# Altium schematic symbol library Inductor.SchLib: 43 symbols
Pins are listed as number, name and electrical type; pins without a type are passive.

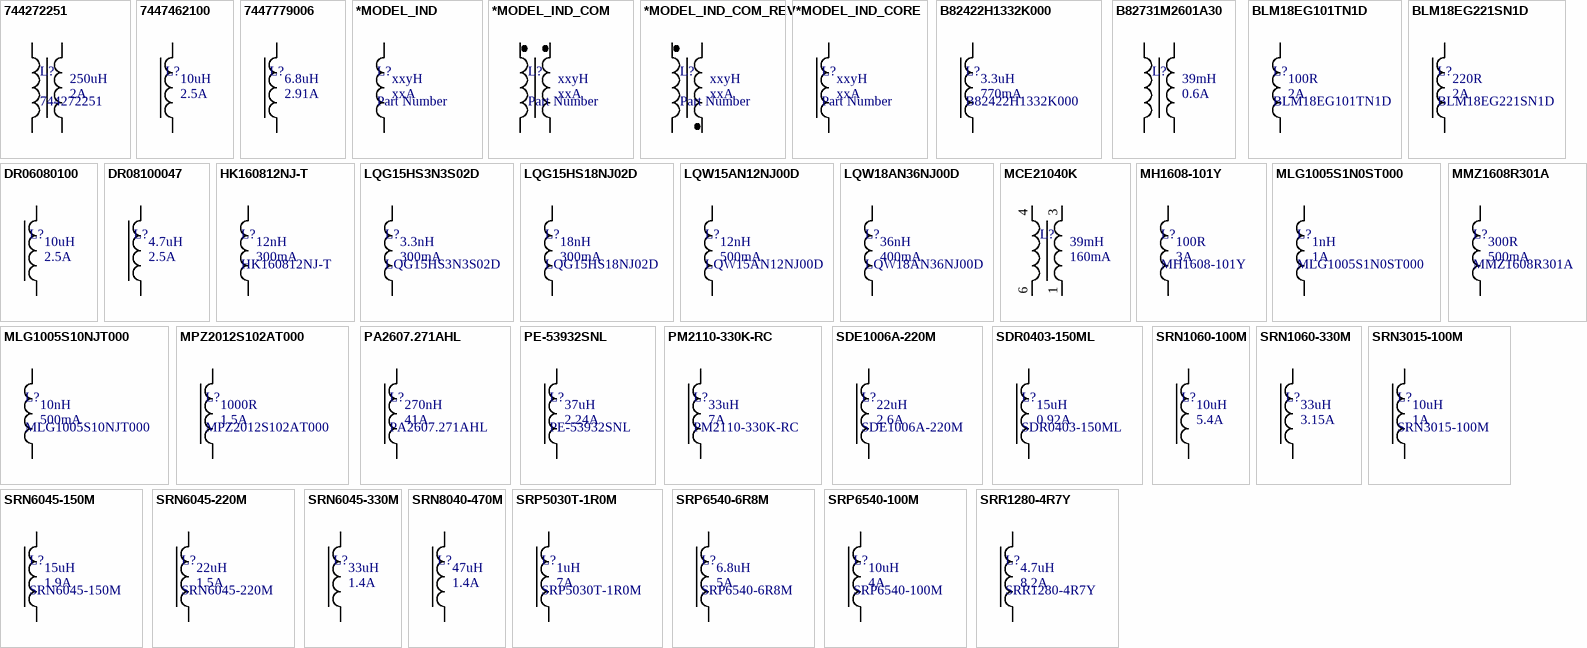
[diagram p0: symbols 744272251 to SRR1280-4R7Y]

## 744272251
designator L?  value 250uH  Current: 2A
CHOKE COM MODE 2 X 250UH 2.0A; Manufacturer: Wurth Electronics Inc; Mount Type: SMD; Supplier 1: Digi-Key; Supplier 2: Farnell; Supplier 3: Mouser; Supplier 4: Newark; Supplier Part Number 1: 732-1491-1-ND; Supplier Part Number 2: 1848207; Supplier Part Number 3: 710-744272251; Supplier Part Number 4: 13T9739
footprint WE-SL5 SERIES
pins: 1, 2, 3, 4

## 7447462100
designator L?  value 10uH  Current: 2.5A  (hidden comment: 7447462100)
FIXED IND 10UH 2.5A 80 MOHM TH; Manufacturer: Wurth Electronics Inc; Mount Type: PTH; Supplier 1: Farnell; Supplier 2: Mouser; Supplier 3: Digi-Key; Supplier Part Number 1: 1848266; Supplier Part Number 2: 710-7447462100; Supplier Part Number 3: 732-2569-ND
footprint IND_PTH_5mm
pins: 1, 2

## 7447779006
designator L?  value 6.8uH  Current: 2.91A  (hidden comment: 7447779006)
FIXED IND 6.8UH 2.91A 35 MOHM; Manufacturer: Wurth Electronics Inc; Mount Type: SMD; Supplier 1: Digi-Key; Supplier Part Number 1: 732-1190-1-ND
footprint 7447779006 (SRN8040 Series Inductor Package)
pins: 1, 2

## *MODEL_IND
designator L?, comment Part Number  value xxyH  Current: xxA
Description; Manufacturer: *; Mount Type: *
pins: 1, 2

## *MODEL_IND_COM
designator L?, comment Part Number  value xxyH  Current: xxA
Description; Manufacturer: *; Mount Type: *
pins: 1, 2, 3, 4

## *MODEL_IND_COM_REV
designator L?, comment Part Number  value xxyH  Current: xxA
Description; Manufacturer: *; Mount Type: *
pins: 1, 2, 3, 4

## *MODEL_IND_CORE
designator L?, comment Part Number  value xxyH  Current: xxA
Description; Manufacturer: *; Mount Type: *
pins: 1, 2

## B82422H1332K000
designator L?  value 3.3uH  Current: 770mA
FIXED IND 3.3UH 770MA 180 MOHM; Manufacturer: EPCOS (TDK); Mount Type: SMD; Supplier 1: Farnell; Supplier Part Number 1: 1299972RL; Supplier 2: Avnet; Supplier Part Number 2: B82422H1332K; Supplier 3: Digi-Key; Supplier Part Number 3: 495-2646-1-ND; Supplier 4: Newark; Supplier Part Number 4: 25M8337
footprint L1210
pins: 1, 2

## B82731M2601A30
designator L?  value 39mH  Current: 0.6A  (hidden comment: B82731M2601A30)
D CORE DBL CHOKE 39MH 0.6A VERT; Manufacturer: EPCOS (TDK); Mount Type: PTH; Supplier 1: Mouser; Supplier 2: Newark; Supplier 3: Digi-Key; Supplier Part Number 1: 871-B82731M2601A30; Supplier Part Number 2: 06J1344; Supplier Part Number 3: 495-2766-ND
footprint EE-20 CHOKE (E-25-10T-V-Long)
pins: 1, 3, 4, 6

## BLM18EG101TN1D
designator L?  value 100R  Current: 2A
FERRITE CHIP 100 OHM 2A 0603; Manufacturer: Murata Electronics North America; Mount Type: SMD; Supplier 1: Digi-Key; Supplier Part Number 1: 490-5978-1-ND; Supplier 2: Farnell; Supplier Part Number 2: 1515714; Supplier 3: Mouser; Supplier Part Number 3: 81-BLM18EG101TN1D
footprint L0603
pins: 1, 2

## BLM18EG221SN1D
designator L?  value 220R  Current: 2A
FERRITE BEAD 220 OHM 0603 1LN; Manufacturer: Murata Electronics North America; Mount Type: SMD; Supplier 1: Avnet; Supplier Part Number 1: BLM18EG221SN1D; Supplier 2: Digikey; Supplier Part Number 2: 490-3992-1-ND; Supplier 3: Arrow; Supplier Part Number 3: BLM18EG221SN1D**MULT1; Supplier 4: Farnell; Supplier Part Number 4: 1515716
footprint L0603
pins: 1, 2

## DR06080100
designator L?  value 10uH  Current: 2.5A  (hidden comment: DR06080100)
FIXED IND 10UH 2.5A; Manufacturer: MGS; Mount Type: PTH
footprint IND_PTH_5mm
pins: 1, 2

## DR08100047
designator L?  value 4.7uH  Current: 2.5A  (hidden comment: DR08100047)
FIXED IND 4.7UH 2.5A; Manufacturer: MGS; Mount Type: PTH
footprint IND_PTH_5mm
pins: 1, 2

## HK160812NJ-T
designator L?  value 12nH  Current: 300mA
FIXED IND 12NH 300MA 280 MOHM; Manufacturer: Taiyo Yuden; Mount Type: SMD; Supplier 1: Mouser; Supplier 2: Newark; Supplier 3: Digi-Key; Supplier 4: Farnell; Supplier Part Number 1: 963-HK160812NJ-T; Supplier Part Number 2: 74M2718; Supplier Part Number 3: 587-1546-1-ND; Supplier Part Number 4: 1515374
footprint L0603
pins: 1, 2

## LQG15HS3N3S02D
designator L?  value 3.3nH  Current: 300mA
FIXED IND 3.3NH 300MA 170 MOHM; Manufacturer: Murata Electronics North America; Mount Type: SMD; Supplier 1: Mouser; Supplier Part Number 1: 81-LQG15HS3N3S02D; Supplier 2: Farnell; Supplier Part Number 2: 1669635; Supplier 3: Digi-Key; Supplier Part Number 3: 490-2616-1-ND
footprint L0402
pins: 1, 2

## LQG15HS18NJ02D
designator L?  value 18nH  Current: 300mA
FIXED IND 18NH 300MA 360 MOHM; Manufacturer: Murata Electronics North America; Mount Type: SMD; Supplier 1: Mouser; Supplier Part Number 1: 81-LQG15HS18NJ02D; Supplier 2: Digi-Key; Supplier Part Number 2: 490-2626-1-ND; Supplier 3: Farnell; Supplier Part Number 3: 1404293
footprint L0402
pins: 1, 2

## LQW15AN12NJ00D
designator L?  value 12nH  Current: 500mA
FIXED IND 12NH 500MA 140 MOHM; Manufacturer: Murata Electronics North America; Mount Type: SMD; Supplier 1: Mouser; Supplier Part Number 1: 81-LQW15AN12NJ00D; Supplier 2: Digi-Key; Supplier Part Number 2: 490-1147-1-ND
footprint L0402
pins: 1, 2

## LQW18AN36NJ00D
designator L?  value 36nH  Current: 400mA
FIXED IND 36NH 400MA 260 MOHM; Manufacturer: Murata Electronics North America; Mount Type: SMD; Supplier 1: Mouser; Supplier 2: Digi-Key; Supplier Part Number 1: 81-LQW18AN36NJ00D; Supplier Part Number 2: 490-6887-1-ND
footprint L0603
pins: 1, 2

## MCE21040K
designator L?  value 39mH  Current: 160mA  (hidden comment: MCE21040K)
D CORE DBL CHOKE 39MH VERT; Manufacturer: MGS; Mount Type: PTH
footprint EE-20 CHOKE (E-25-10T-V-Long)
pins: 1, 3, 4, 6

## MH1608-101Y
designator L?  value 100R  Current: 3A
FERRITE BEAD 100 OHM 0603 1LN; Manufacturer: Bourns Inc.; Mount Type: SMD; Supplier 1: Digikey; Supplier Part Number 1: MH1608-101YCT-ND; Supplier 2: Mouser; Supplier Part Number 2: 652-MH1608-101Y; Supplier 3: Arrow; Supplier Part Number 3: MH1608-101Y; Supplier 4: Newark; Supplier Part Number 4: 14P6073
footprint L0603
pins: 1, 2

## MLG1005S1N0ST000
designator L?  value 1nH  Current: 1A
FIXED IND 1NH 1A 100 MOHM SMD; Manufacturer: TDK Corporation; Mount Type: SMD; Supplier 1: Mouser; Supplier Part Number 1: 810-MLG1005S1N0ST000; Supplier 2: Digi-Key; Supplier Part Number 2: 445-3035-1-ND
footprint L0402
pins: 1, 2

## MLG1005S10NJT000
designator L?  value 10nH  Current: 500mA
FIXED IND 10NH 500MA 350 MOHM; Manufacturer: TDK Corporation; Mount Type: SMD; Supplier 1: Mouser; Supplier Part Number 1: 810-MLG1005S10NJT000; Supplier 2: Newark; Supplier Part Number 2: 89R2819; Supplier 3: Digi-Key; Supplier Part Number 3: 445-3059-1-ND
footprint L0402
pins: 1, 2

## MMZ1608R301A
designator L?  value 300R  Current: 500mA
FERRITE CHIP 300 OHM 500MA 0603; Manufacturer: TDK Corporation; Mount Type: SMD; Supplier 1: Digi-Key; Supplier 2: Newark; Supplier 3: Mouser; Supplier 4: Farnell; Supplier Part Number 1: 445-2171-1-ND; Supplier Part Number 2: 89R3089; Supplier Part Number 3: 810-MMZ1608R301A; Supplier Part Number 4: 1669698
footprint L0603
pins: 1, 2

## MPZ2012S102AT000
designator L?  value 1000R  Current: 1.5A
FERRITE BEAD 1 KOHM 0805 1LN; Manufacturer: TDK Corporation; Mount Type: SMD; Supplier 1: Digi-Key; Supplier Part Number 1: 445-5223-1-ND; Supplier 2: Newark; Supplier Part Number 2: 88T9831; Supplier 3: Farnell; Supplier Part Number 3: 2354350; Supplier 4: Avnet; Supplier Part Number 4: MPZ2012S102AT000
footprint L0805
pins: 1, 2

## PA2607.271AHL
designator L?  value 270nH  Current: 41A
FIXED IND 270NH 41A 0.29 MOHM; Manufacturer: Pulse Electronics Power; Mount Type: SMD
footprint PA2607NL SERIES (PA2607NL Series Inductor Package)
pins: 1, 2

## PE-53932SNL
designator L?  value 37uH  Current: 2.24A
FIXED IND 37UH 2.24A 100 MOHM; Manufacturer: Pulse Electronics Corporation; Mount Type: SMD; Supplier 1: Farnell; Supplier 2: Mouser; Supplier 3: Digi-Key; Supplier 4: Newark; Supplier Part Number 1: 2215910; Supplier Part Number 2: 673-PE-53932SNL; Supplier Part Number 3: 553-1415-ND; Supplier Part Number 4: 46W2106
footprint LCI-44 SERIES
pins: 1, 2

## PM2110-330K-RC
designator L?  value 33uH  Current: 7A
FIXED IND 33UH 7A 19 MOHM SMD; Manufacturer: Bourns Inc; Mount Type: SMD; Supplier 1: Mouser; Supplier 2: Digi-Key; Supplier 3: Newark; Supplier Part Number 1: 542-PM2110-330K-RC; Supplier Part Number 2: M8762-ND; Supplier Part Number 3: 63K3189
footprint PM2110 Series (PM2110 Series Inductor Package)
pins: 1, 2

## SDE1006A-220M
designator L?  value 22uH  Current: 2.6A
FIXED IND 22UH 2.6A 100 MOHM SMD; Manufacturer: Bourns Inc.; Mount Type: SMD; Supplier 1: Arrow; Supplier Part Number 1: BT7cLCjR4AcSCv8OfbaCtKhpImzOIY6yG73DK1LtnU4; Supplier 2: Digi-Key; Supplier Part Number 2: SDE1006A-220MCT-ND; Supplier 3: Farnell; Supplier Part Number 3: 2373997
footprint SDE1006A Series (SMD Power Inductors)
pins: 1, 2

## SDR0403-150ML
designator L?  value 15uH  Current: 0.92A
INDUCTOR POWER 15UH 0.92A 0403; Manufacturer: Bourns Inc.; Mount Type: SMD; Supplier 1: Allied; Supplier 2: Newark; Supplier 3: Mouser; Supplier 4: Digi-Key; Supplier 5: Farnell; Supplier Part Number 1: 70277110; Supplier Part Number 2: 04P1892; Supplier Part Number 3: 652-SDR0403-150ML; Supplier Part Number 4: SDR0403-150MLCT-ND; Supplier Part Number 5: 1827983
footprint SDR0403 Series
pins: 1, 2

## SRN1060-100M
designator L?  value 10uH  Current: 5.4A  (hidden comment: SRN1060-100M)
FIXED IND 10UH 5.4A 29 MOHM SMD; Manufacturer: Bourns Inc.; Mount Type: SMD; Supplier 1: Farnell; Supplier 2: Newark; Supplier 3: Digi-Key; Supplier Part Number 1: 2329186; Supplier Part Number 2: 54W0028; Supplier Part Number 3: SRN1060-100MCT-ND
footprint SRN1060 Series
pins: 1, 2

## SRN1060-330M
designator L?  value 33uH  Current: 3.15A  (hidden comment: SRN1060-330M)
FIXED IND 33UH 3.15A 72 MOHM SMD; Manufacturer: Bourns Inc.; Mount Type: SMD; Supplier 1: Farnell; Supplier 2: Digi-Key; Supplier 3: Newark; Supplier Part Number 1: 2329194RL; Supplier Part Number 2: SRN1060-330MCT-ND; Supplier Part Number 3: 06X7480
footprint SRN1060 Series
pins: 1, 2

## SRN3015-100M
designator L?  value 10uH  Current: 1A
INDUCTOR POWER SHIELD 10UH SMD; Manufacturer: Bourns Inc.; Mount Type: SMD; Supplier 1: Mouser; Supplier 2: Allied; Supplier 3: Digi-Key; Supplier 4: Farnell; Supplier 5: Newark; Supplier Part Number 1: 652-SRN3015-100M; Supplier Part Number 2: 70231646; Supplier Part Number 3: SRN3015-100MCT-ND; Supplier Part Number 4: 2061634RL; Supplier Part Number 5: 61T9872
footprint SRN3015 Series
pins: 1, 2

## SRN6045-150M
designator L?  value 15uH  Current: 1.9A
FIXED IND 15UH 1.9A 95.8 MOHM; Manufacturer: Bourns Inc.; Mount Type: SMD; Supplier 1: Newark; Supplier Part Number 1: 64T2382; Supplier 2: Mouser; Supplier Part Number 2: 652-SRN6045-150M; Supplier 3: Digi-Key; Supplier Part Number 3: SRN6045-150MCT-ND; Supplier 4: Farnell; Supplier Part Number 4: 2061653
footprint SRN6045 Series
pins: 1, 2

## SRN6045-220M
designator L?  value 22uH  Current: 1.5A
FIXED IND 22UH 1.5A 142 MOHM SMD; Manufacturer: Bourns Inc.; Mount Type: SMD; Supplier 1: Newark; Supplier Part Number 1: 61T9890; Supplier 2: Allied; Supplier Part Number 2: 70231663; Supplier 3: Digi-Key; Supplier Part Number 3: SRN6045-220MCT-ND; Supplier 4: Farnell; Supplier Part Number 4: 2061654
footprint SRN6045 Series
pins: 1, 2

## SRN6045-330M
designator L?  value 33uH  Current: 1.4A  (hidden comment: SRN6045-330M)
FIXED IND 33UH 1.4A 188 MOHM SMD; Manufacturer: Bourns Inc.; Mount Type: SMD; Supplier 1: Digi-Key; Supplier Part Number 1: SRN6045-330MCT-ND
footprint SRN6045 Series
pins: 1, 2

## SRN8040-470M
designator L?  value 47uH  Current: 1.4A  (hidden comment: SRN8040-470M)
INDUCTOR POWER SHIELD 47UH SMD; Manufacturer: Bourns; Mount Type: SMD; Supplier 1: Farnell; Supplier 2: Newark; Supplier 3: Digi-Key; Supplier 4: Mouser; Supplier 5: Arrow; Supplier Part Number 1: 2061674; Supplier Part Number 2: 64T2404; Supplier Part Number 3: SRN8040-470MCT-ND; Supplier Part Number 4: 652-SRN8040-470M; Supplier Part Number 5: 51290896
footprint SNR8040 Series (SRN8040 Series Inductor Package)
pins: 1, 2

## SRP5030T-1R0M
designator L?  value 1uH  Current: 7A
FIXED IND 1UH 7A 14 MOHM SMD; Manufacturer: Bourns Inc.; Mount Type: SMD; Supplier 1: Arrow; Supplier Part Number 1: SRP5030T-1R0M**MULT1; Supplier 2: Farnell; Supplier Part Number 2: 2392988; Supplier 3: Mouser; Supplier Part Number 3: 652-SRP5030T-1R0M; Supplier 4: Digikey; Supplier Part Number 4: SRP5030T-1R0MCT-ND
footprint SRP5030T Series
pins: 1, 2

## SRP6540-6R8M
designator L?  value 6.8uH  Current: 5A
FIXED IND 6.8UH 5A 49.5 MOHM SMD; Manufacturer: Bourns Inc.; Mount Type: SMD; Supplier 1: Digi-Key; Supplier Part Number 1: SRP6540-6R8MCT-ND; Supplier 2: Arrow; Supplier Part Number 2: 7agoJYDUdP8W5JItxjnKniFjQvCR2EhGxynEoXUSJAY; Supplier 3: Farnell; Supplier Part Number 3: 2309902
footprint SRP6540 Series
pins: 1, 2

## SRP6540-100M
designator L?  value 10uH  Current: 4A
FIXED IND 10UH 4A 78.5 MOHM SMD; Manufacturer: Bourns Inc.; Mount Type: SMD; Supplier 1: Digikey; Supplier Part Number 1: SRP6540-100MCT-ND; Supplier 2: Avnet; Supplier Part Number 2: SRP6540-100M/BKN; Supplier 3: Mouser; Supplier Part Number 3: 652-SRP6540-100M; Supplier 4: Newark; Supplier Part Number 4: 54W0099; Supplier 5: Arrow; Supplier Part Number 5: SRP6540-100M**MULT1; Supplier 6: Farnell; Supplier Part Number 6: 2309904
footprint SRP6540 Series
pins: 1, 2

## SRR1280-4R7Y
designator L?  value 4.7uH  Current: 8.2A
INDUCTOR POWER 4.7UH 8.2A SMD; Manufacturer: Bourns Inc.; Mount Type: SMD; Supplier 1: Digi-Key; Supplier 2: Newark; Supplier 3: Mouser; Supplier 4: Farnell; Supplier Part Number 1: SRR1280-4R7YCT-ND; Supplier Part Number 2: 33M0112; Supplier Part Number 3: 652-SRR1280-4R7Y; Supplier Part Number 4: 1635923
footprint SRR1280 Series
pins: 1, 2

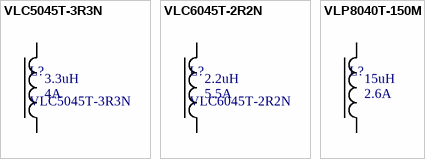
[diagram p1: symbols VLC5045T-3R3N to VLP8040T-150M]

## VLC5045T-3R3N
designator L?  value 3.3uH  Current: 4A
INDUCTOR POWER 3.3UH 4.0A SMD; Manufacturer: TDK Corporation; Mount Type: SMD; Supplier 1: Newark; Supplier 2: Mouser; Supplier 3: Digi-Key; Supplier Part Number 1: 17T7437; Supplier Part Number 2: 810-VLC5045T-3R3N; Supplier Part Number 3: 445-6525-1-ND
footprint VLC5045 Series
pins: 1, 2

## VLC6045T-2R2N
designator L?  value 2.2uH  Current: 5.5A
INDUCTOR POWER 2.2UH 5.5A SMD; Manufacturer: TDK Corporation; Mount Type: SMD; Supplier 1: Newark; Supplier 2: Mouser; Supplier 3: Digi-Key; Supplier Part Number 1: 17T7446; Supplier Part Number 2: 810-VLC6045T-2R2N; Supplier Part Number 3: 445-6534-1-ND
footprint VLC6045 Series
pins: 1, 2

## VLP8040T-150M
designator L?  value 15uH  Current: 2.6A  (hidden comment: VLP8040T-150M)
FIXED IND 15UH 2.6A 58 MOHM SMD; Manufacturer: TDK Corporation; Mount Type: SMD; Supplier 1: Digi-Key; Supplier Part Number 1: 445-6572-1-ND
footprint VLP8040 Series
pins: 1, 2